# Altium schematic symbol library 1935174.SchLib: 1 symbol
Pins are listed as number, name and electrical type; pins without a type are passive.

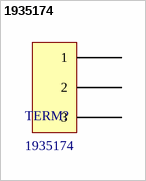
[diagram p0: symbol 1935174]

## 1935174
designator TERM?
TERM BLOCK PCB 3POS 5.0MM GREEN; Manufacturer: Phoenix Contact; Positions Per Level: 3; Pitch: 0.197" (5.00mm); Mating Orientation: Horizontal with Board; Wire Gauge: 12-26 AWG; Wire Termination: Screw; Torque - Screw: 0.35-0.4 Nm (3.1-3.5 Lb-In); Screw Thread: M2.6; Supplier 1: Digi-Key; Manufacturer Part Number: 1935174; RoHS: RoHS Compliant; Category: Connectors, Interconnects; Stock 1: 18141; Pricing 1: 1=0.58, 10=0.552, 50=0.528, 100=0.5136, 250=0.48, 500=0.4416, 1000=0.408 (USD); Packaging: Bulk; Part Status: Active; Mounting Type: Through Hole; Features: Interlocking (Side); Color: Green; Operating Temperature: -; Housing Material: Polyamide (PA), Nylon; Contact Material - Plating: -; Clamp Material - Plating: -; Screw Material - Plating: -; ComponentLink1URL: https://media.digikey.com/pdf/Data%20Sheets/Phoenix%20Contact%20PDFs/1935174.pdf; ComponentLink1Description: https://media.digikey.com/pdf/Data%20Sheets/Phoenix%20Contact%20PDFs/1935174.pdf; Supplier Part Number 1: 277-1578-ND
pins: 1, 2, 3